# EAGLE library part 74XX244 (library packages(ti))
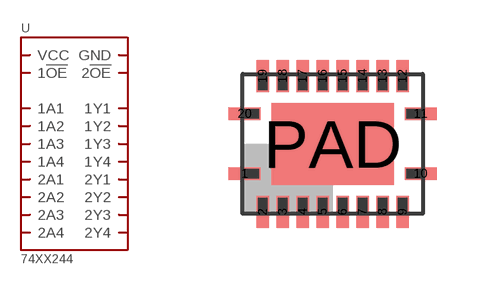
[diagram p20: symbol with the pads of RGY.20; footprint RGY.20]

Designator prefix -

## 74XX244.RGY  [RGY.20]
1  1!OE
2  1A1
3  2Y4
4  1A2
5  2Y3
6  1A3
7  2Y2
8  1A4
9  2Y1
10  GND
11  2A1
12  1Y4
13  2A2
14  1Y3
15  2A3
16  1Y2
17  2A4
18  1Y1
19  2!OE
20  VCC
PAD  GND

## Footprint RGY.20 (pad centres in mm)
smd 0.8 x 0.32: 1 -2.2,-0.75; 10 2.2,-0.75; 11 2.2,0.75; 20 -2.2,0.75
smd 0.32 x 0.8: 2 -1.75,-1.7; 3 -1.25,-1.7; 4 -0.75,-1.7; 5 -0.25,-1.7; 6 0.25,-1.7; 7 0.75,-1.7; 8 1.25,-1.7; 9 1.75,-1.7; 12 1.75,1.7; 13 1.25,1.7; 14 0.75,1.7; 15 0.25,1.7; 16 -0.25,1.7; 17 -0.75,1.7; 18 -1.25,1.7; 19 -1.75,1.7
smd 3.05 x 2.05: PAD 0,0